# Altium footprint library Contector_SMD_MXC.PcbLib: 1 footprints
Each footprint in its own frame and in the unit in brackets; x right, y up, seen from the top. Pads: shape width x height; smd on the part's side, far side on the other; paste and mask are expansions set on the pad; w line width, h text height; cw(c..) or ccw(c..) is an arc to the next point about the centre after c.
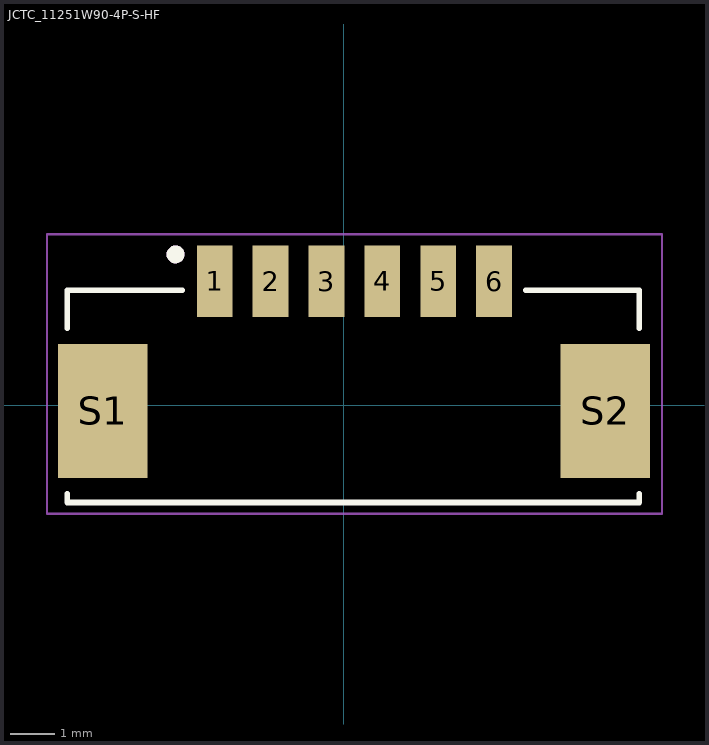
[diagram p0: the footprint, top view; thin cyan lines are the x and y axes]

## JCTC_11251W90-4P-S-HF [mm]
pads (8):
  rect 0.8x1.6 smd: 1(-2.891,2.773) 2(-1.641,2.773) 3(-0.391,2.773) 4(0.859,2.773) 5(2.109,2.773) 6(3.359,2.773)
  rect 2x3 smd: S1(-5.391,-0.127) S2(5.842,-0.127)
Top Overlay:
  circle w0.2: c-3.766,3.373 r0.1
  lines w0.127: -6.191,-1.977 -6.191,-2.177 6.604,-2.177 6.604,-1.977 ; -6.191,1.723 -6.191,2.573 -3.616,2.573 ; 4.064,2.573 6.604,2.573 6.604,1.723
Mechanical 13:
  circle w0.2: c-3.766,3.373 r0.1
Mechanical 15:
  lines w0.05: -6.641,-2.427 7.112,-2.427 7.112,3.823 -6.641,3.823 -6.641,-2.427